# Altium schematic symbol library mxj_wwy.SchLib: 4 symbols
Pins are listed as number, name and electrical type; pins without a type are passive.

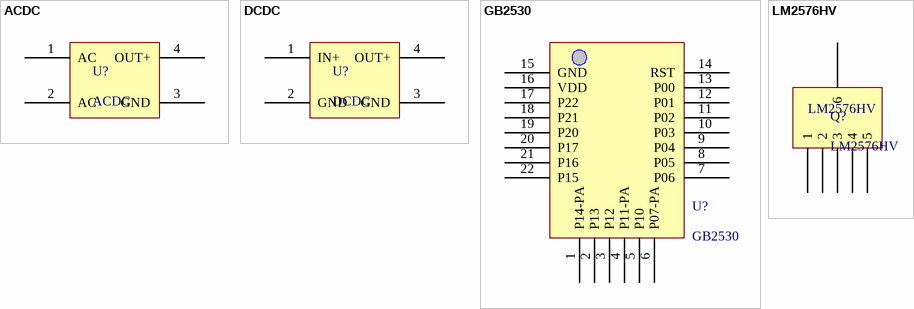
[diagram p0: symbols ACDC to LM2576HV]

## ACDC
designator U?
footprint ACDC (Footprint not found)
pins: 1 AC, 2 AC, 3 GND, 4 OUT+

## DCDC
designator U?
footprint DCDC (Footprint not found)
pins: 1 IN+, 2 GND, 3 GND, 4 OUT+

## GB2530
designator U?
footprint TT-2530
pins: 1 P14-PA, 2 P13, 3 P12, 4 P11-PA, 5 P10, 6 P07-PA, 7 P06, 8 P05, 9 P04, 10 P03, 11 P02, 12 P01, 13 P00, 14 RST, 15 GND, 16 VDD, 17 P22, 18 P21, 19 P20, 20 P17, 21 P16, 22 P15

## LM2576HV
designator Q?
footprint LM2576HV
pins: 1, 2, 3, 4, 5, 6